# Altium footprint library 语音板4次.PcbLib: 19 footprints (part 1 of 2)
Each footprint in its own frame and in the unit in brackets; x right, y up, seen from the top. Pads: shape width x height; smd on the part's side, far side on the other; paste and mask are expansions set on the pad; w line width, h text height; cw(c..) or ccw(c..) is an arc to the next point about the centre after c.
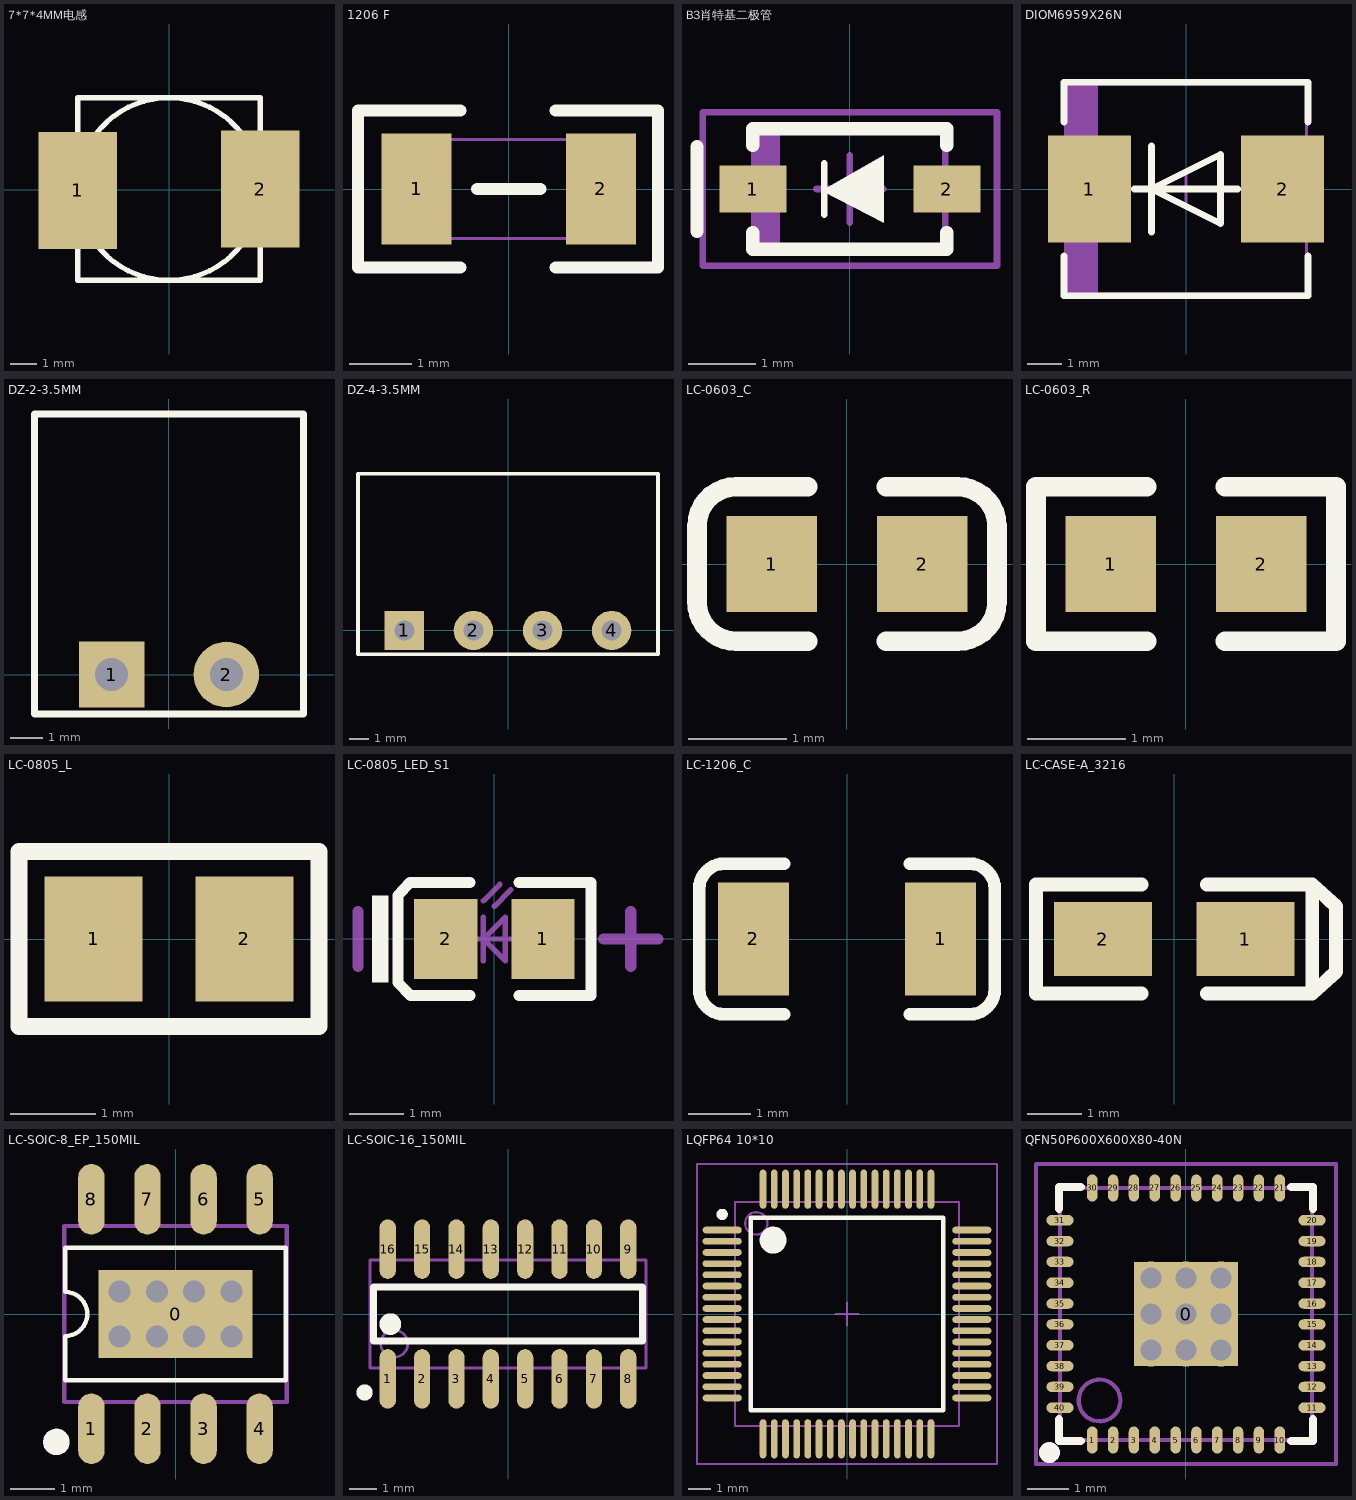
[diagram p0: the footprints below, top view; thin cyan lines are the x and y axes]

## 7*7*4MM电感 [mm]
pads (2):
  rect 3x4.5 smd: 1(-3.5,-0.028) 2(3.5,0.028)
Top Overlay:
  circle w0.2: c0,0.028 r3.5
  lines w0.2: -3.5,-3.472 3.5,-3.472 3.5,3.528 -3.5,3.528 -3.5,-3.472

## 1206 F [mm]
pads (2):
  rect 1.13x1.8 smd: 1(-1.49,0) 2(1.49,0)
Top Overlay:
  lines w0.2: -0.787,-1.27 -2.438,-1.27 -2.438,1.27 -0.787,1.27 ; -0.508,0 0.508,0 ; 0.762,-1.27 2.413,-1.27 2.413,1.27 0.762,1.27
Mechanical 13:
  lines w0.05: -1.6,-0.8 1.6,-0.8 1.6,0.8 -1.6,0.8 -1.6,-0.8

## B3肖特基二极管 [mm] "Molded"
height 1.35
pads (2):
  rect 1x0.7 smd: 1(-1.45,0) 2(1.45,0)
Top Overlay:
  region: 0.508,-0.508 -0.419,-0.024 0.508,0.508
  lines w0.1: -0.381,-0.381 -0.381,0.381
  lines w0.2: -2.286,-0.635 -2.286,0.635 ; -1.45,-0.65 -1.45,-0.9 1.45,-0.9 1.45,-0.65 ; -1.45,0.65 -1.45,0.9 1.45,0.9 1.45,0.65
Mechanical 13:
  rectangle: -1.425,-0.9 -1.042,0.9
  lines w0.1: -1.425,-0.9 1.425,-0.9 1.425,0.9 -1.425,0.9 -1.425,-0.9
Mechanical 15:
  lines w0.1: -0.5,0 0.5,0 ; 0,-0.5 0,0.5 ; -2.2,-1.15 2.2,-1.15 2.2,1.15 -2.2,1.15 -2.2,-1.15
3D body: height 1.35, standoff 0, extent -1.425,-0.9 1.425,0.9

## DIOM6959X26N [mm] "Molded Diode, 2-Leads, Body 6.9x5.9mm"
height 2.62
pads (2):
  rect 2.45x3.15 smd: 1(-2.85,0) 2(2.85,0)
Top Overlay:
  lines w0.2: -3.6,-1.975 -3.6,-3.15 3.6,-3.15 3.6,-1.975 ; -3.6,1.975 -3.6,3.15 3.6,3.15 3.6,1.975 ; -1.524,0 1.524,0 ; -1.016,-1.27 -1.016,1.27 ; -1.016,0 1.016,1.016 1.016,-1.016 -1.016,0
Mechanical 13:
  rectangle: -3.555,-3.11 -2.599,3.11
  lines w0.1: -3.555,-3.11 3.555,-3.11 3.555,3.11 -3.555,3.11 -3.555,-3.11
Mechanical 15:
  lines w0.1: -0.5,0 0.5,0 ; 0,-0.5 0,0.5
3D body: height 2.62, standoff 0, extent -3.555,-3.11 3.555,3.11

## DZ-2-3.5MM [mm]
pads (2):
  rect 2x2 hole 1: 1(-1.75,0)
  round 2 hole 1: 2(1.75,0)
Top Overlay:
  lines w0.2: -4.1,-1.203 -4.1,7.941 4.1,7.941 4.1,-1.203 -4.1,-1.203

## DZ-4-3.5MM [mm]
pads (4):
  rect 2x2 hole 1: 1(-5.25,0)
  round 2 hole 1: 2(-1.75,0) 3(1.75,0) 4(5.25,0)
Top Overlay:
  lines w0.2: 0.175,7.941 7.6,7.941 7.6,-1.203 -7.6,-1.203 -7.6,7.941 0.42,7.941

## LC-0603_C [mm]
pads (2):
  rect 0.93x0.98 smd: 1(-0.77,0) 2(0.77,0)
Top Overlay:
  lines w0.2: -0.4,-0.79 -1.135,-0.79 cw(c-1.135,-0.39) -1.535,-0.39 -1.535,0.39 cw(c-1.135,0.39) -1.135,0.79 -0.4,0.79 ; 0.4,-0.79 1.135,-0.79 ccw(c1.135,-0.39) 1.535,-0.39 1.535,0.39 ccw(c1.135,0.39) 1.135,0.79 0.4,0.79
3D body: height 0.3, standoff 0, extent -0.8,-0.4 0.8,0.4

## LC-0603_R [mm]
pads (2):
  rect 0.93x0.98 smd: 1(-0.77,0) 2(0.77,0)
Top Overlay:
  lines w0.2: -0.4,-0.79 -1.535,-0.79 -1.535,0.79 -0.4,0.79 ; 0.4,-0.79 1.535,-0.79 1.535,0.79 0.4,0.79
3D body: height 0.56, standoff 0, extent -0.85,-0.4 0.85,0.4

## LC-0805_L [mm]
pads (2):
  rect 1.16x1.47 smd: 1(-0.89,0) 2(0.89,0)
Top Overlay:
  lines w0.2: -1.77,-1.035 1.77,-1.035 1.77,1.035 -1.77,1.035 -1.77,-1.035
3D body: height 0.6, standoff -0.02, extent -1.022,-0.637 1.028,0.638

## LC-0805_LED_S1 [mm]
pads (2):
  rect 1.16x1.47 smd: 1(0.89,0) 2(-0.89,0)
Top Overlay:
  rectangle: -2.245,-0.8 -1.945,0.8
  lines w0.2: -0.45,-1.035 -1.535,-1.035 -1.77,-0.8 -1.77,0.8 -1.55,1.035 -0.45,1.035 ; 0.45,-1.035 1.77,-1.035 1.77,1.035 0.45,1.035
Mechanical 13:
  lines w0.1: -0.4,0 0.4,0 ; -0.2,-0.4 -0.2,0.4 ; -0.2,0.7 0.1,1 ; 0,0.6 0.3,0.9 ; -0.2,0 0.2,-0.4 0.2,0.4 -0.2,0
Mechanical 15:
  lines w0.203: -2.5,-0.5 -2.5,0.5 ; 2,0 3,0 ; 2.5,-0.5 2.5,0.5
3D body: height 1.1, standoff 0, extent -1.01,-0.625 1.01,0.625

## LC-1206_C [mm]
pads (2):
  rect 1.13x1.8 smd: 1(1.49,0) 2(-1.49,0)
Top Overlay:
  lines w0.2: -1,-1.2 -1.955,-1.2 cw(c-1.955,-0.8) -2.355,-0.8 -2.355,0.8 cw(c-1.955,0.8) -1.955,1.2 -1,1.2 ; 1,-1.2 1.955,-1.2 ccw(c1.955,-0.8) 2.355,-0.8 2.355,0.8 ccw(c1.955,0.8) 1.955,1.2 1,1.2
3D body: height 1, standoff 0, extent -1.602,-0.813 1.598,0.787

## LC-CASE-A_3216 [mm]
pads (2):
  rect 1.8x1.35 smd: 1(1.31,0) 2(-1.31,0)
Top Overlay:
  lines w0.254: -0.6,-1.002 -2.537,-1.002 -2.537,1.002 -0.6,1.002 ; 0.6,-1.002 2.537,-1.002 ; 0.6,1.002 2.537,1.002 ; 2.537,-1.002 2.973,-0.6 2.973,0.6 2.537,1.002 ; 2.537,-1.002 2.537,1.002
3D body: height 1.71, standoff 0, extent -1.7,-0.84 1.7,0.84

## LC-SOIC-8_EP_150MIL [mm]
pads (9):
  rect 3.5x2 smd: 0(0,0)
  oval 0.6x1.6 smd: 1(-1.905,-2.6) 2(-0.635,-2.6) 3(0.635,-2.6) 4(1.905,-2.6) 5(1.905,2.6) 6(0.635,2.6) 7(-0.635,2.6) 8(-1.905,2.6)
via 1.27,-0.508 diameter 0.8 hole 0.5
via 0.423,-0.508 diameter 0.8 hole 0.5
via -0.423,-0.508 diameter 0.8 hole 0.5
via -1.27,-0.508 diameter 0.8 hole 0.5
via 1.27,0.508 diameter 0.8 hole 0.5
via 0.423,0.508 diameter 0.8 hole 0.5
via -0.423,0.508 diameter 0.8 hole 0.5
via -1.27,0.508 diameter 0.8 hole 0.5
Top Overlay:
  circle w0.3: c-2.7,-2.9 r0.15
  lines w0.1: -2.5,-1.5 -2.5,-0.5 ccw(c-2.5,0) -2.5,0.5 -2.5,1.5 2.5,1.5 2.5,-1.5 -2.5,-1.5
Mechanical 13:
  lines w0.1: -2.525,-1.995 2.525,-1.995 2.525,1.995 -2.525,1.995 -2.525,-1.995

## LC-SOIC-16_150MIL [mm]
pads (16):
  oval 0.6x2.2 smd: 1(-4.445,-2.4) 2(-3.175,-2.4) 3(-1.905,-2.4) 4(-0.635,-2.4) 5(0.635,-2.4) 6(1.905,-2.4) 7(3.175,-2.4) 8(4.445,-2.4) 9(4.445,2.4) 10(3.175,2.4) 11(1.905,2.4) 12(0.635,2.4) 13(-0.635,2.4) 14(-1.905,2.4) 15(-3.175,2.4) 16(-4.445,2.4)
Top Overlay:
  circle w0.4: c-4.35,-0.375 r0.2
  circle w0.3: c-5.3,-2.9 r0.15
  lines w0.254: -4.975,-1 -4.975,1 4.975,1 4.975,-1 -4.975,-1
Mechanical 13:
  circle w0.1: c-4.205,-1.095 r0.5
  lines w0.1: -5.105,-1.995 -5.105,1.995 5.105,1.995 5.105,-1.995 -5.105,-1.995

## LQFP64 10*10 [mm]
height 1.4
pads (64):
  oval 1.75x0.3 smd: 1(-5.575,3.75) 2(-5.575,3.25) 3(-5.575,2.75) 4(-5.575,2.25) 5(-5.575,1.75) 6(-5.575,1.25) 7(-5.575,0.75) 8(-5.575,0.25) 9(-5.575,-0.25) 10(-5.575,-0.75) 11(-5.575,-1.25) 12(-5.575,-1.75) 13(-5.575,-2.25) 14(-5.575,-2.75) 15(-5.575,-3.25) 16(-5.575,-3.75) 33(5.575,-3.75) 34(5.575,-3.25) 35(5.575,-2.75) 36(5.575,-2.25) 37(5.575,-1.75) 38(5.575,-1.25) 39(5.575,-0.75) 40(5.575,-0.25) 41(5.575,0.25) 42(5.575,0.75) 43(5.575,1.25) 44(5.575,1.75) 45(5.575,2.25) 46(5.575,2.75) 47(5.575,3.25) 48(5.575,3.75)
  oval 0.3x1.75 smd: 17(-3.75,-5.575) 18(-3.25,-5.575) 19(-2.75,-5.575) 20(-2.25,-5.575) 21(-1.75,-5.575) 22(-1.25,-5.575) 23(-0.75,-5.575) 24(-0.25,-5.575) 25(0.25,-5.575) 26(0.75,-5.575) 27(1.25,-5.575) 28(1.75,-5.575) 29(2.25,-5.575) 30(2.75,-5.575) 31(3.25,-5.575) 32(3.75,-5.575) 49(3.75,5.575) 50(3.25,5.575) 51(2.75,5.575) 52(2.25,5.575) 53(1.75,5.575) 54(1.25,5.575) 55(0.75,5.575) 56(0.25,5.575) 57(-0.25,5.575) 58(-0.75,5.575) 59(-1.25,5.575) 60(-1.75,5.575) 61(-2.25,5.575) 62(-2.75,5.575) 63(-3.25,5.575) 64(-3.75,5.575)
Top Overlay:
  circle w0.6: c-3.3,3.3 r0.3
  circle w0.25: c-5.575,4.45 r0.125
  lines w0.2: -4.3,-4.3 4.3,-4.3 4.3,4.3 -4.3,4.3 -4.3,-4.3
Mechanical 13:
  circle w0.1: c-4.05,4.05 r0.5
  lines w0.1: -5,-5 5,-5 5,5 -5,5 -5,-5
Mechanical 15:
  lines w0.1: -0.5,0 0.5,0 ; 0,-0.5 0,0.5 ; -6.7,-6.7 6.7,-6.7 6.7,6.7 -6.7,6.7 -6.7,-6.7
3D body: height 1.4, standoff 1.35, extent -5,-5 5,5

## QFN50P600X600X80-40N [mm] "QFN, 40-Leads, Body 6.1x6.1mm (max), Pitch 0."
height 0.8
pads (41):
  rect 2.5x2.5 smd: 0(0,0)
  oval 0.25x0.65 smd: 1(-2.25,-3.025) 2(-1.75,-3.025) 3(-1.25,-3.025) 4(-0.75,-3.025) 5(-0.25,-3.025) 6(0.25,-3.025) 7(0.75,-3.025) 8(1.25,-3.025) 9(1.75,-3.025) 10(2.25,-3.025) 21(2.25,3.025) 22(1.75,3.025) 23(1.25,3.025) 24(0.75,3.025) 25(0.25,3.025) 26(-0.25,3.025) 27(-0.75,3.025) 28(-1.25,3.025) 29(-1.75,3.025) 30(-2.25,3.025)
  oval 0.65x0.25 smd: 11(3.025,-2.25) 12(3.025,-1.75) 13(3.025,-1.25) 14(3.025,-0.75) 15(3.025,-0.25) 16(3.025,0.25) 17(3.025,0.75) 18(3.025,1.25) 19(3.025,1.75) 20(3.025,2.25) 31(-3.025,2.25) 32(-3.025,1.75) 33(-3.025,1.25) 34(-3.025,0.75) 35(-3.025,0.25) 36(-3.025,-0.25) 37(-3.025,-0.75) 38(-3.025,-1.25) 39(-3.025,-1.75) 40(-3.025,-2.25)
via -0.838,-0.864 diameter 0.8 hole 0.5
via -0.838,0.864 diameter 0.8 hole 0.5
via -0.838,0 diameter 0.8 hole 0.5
via 0.838,-0.864 diameter 0.8 hole 0.5
via 0.838,0 diameter 0.8 hole 0.5
via 0.838,0.864 diameter 0.8 hole 0.5
via 0,-0.864 diameter 0.8 hole 0.5
via 0,0 diameter 0.8 hole 0.5
via 0,0.864 diameter 0.8 hole 0.5
Top Overlay:
  circle w0.25: c-3.277,-3.325 r0.125
  lines w0.2: -3.05,-2.525 -3.05,-3.05 -2.525,-3.05 ; -3.05,2.525 -3.05,3.05 -2.525,3.05 ; 2.525,-3.05 3.05,-3.05 3.05,-2.525 ; 2.525,3.05 3.05,3.05 3.05,2.525
Mechanical 13:
  circle w0.1: c-2.075,-2.075 r0.5
  lines w0.1: -3.025,-3.025 -3.025,3.025 3.025,3.025 3.025,-3.025 -3.025,-3.025
Mechanical 15:
  lines w0.1: -0.5,0 0.5,0 ; 0,-0.5 0,0.5 ; -3.6,-3.6 -3.6,3.6 3.6,3.6 3.6,-3.6 -3.6,-3.6
3D body: height 0.8, standoff 0.01, extent -3.025,-3.025 3.025,3.025